# EAGLE library part SMD-BLACK-MALE-HEADER-R/A(40P-2.0) (library Seeed-OPL-Connector)
320020032
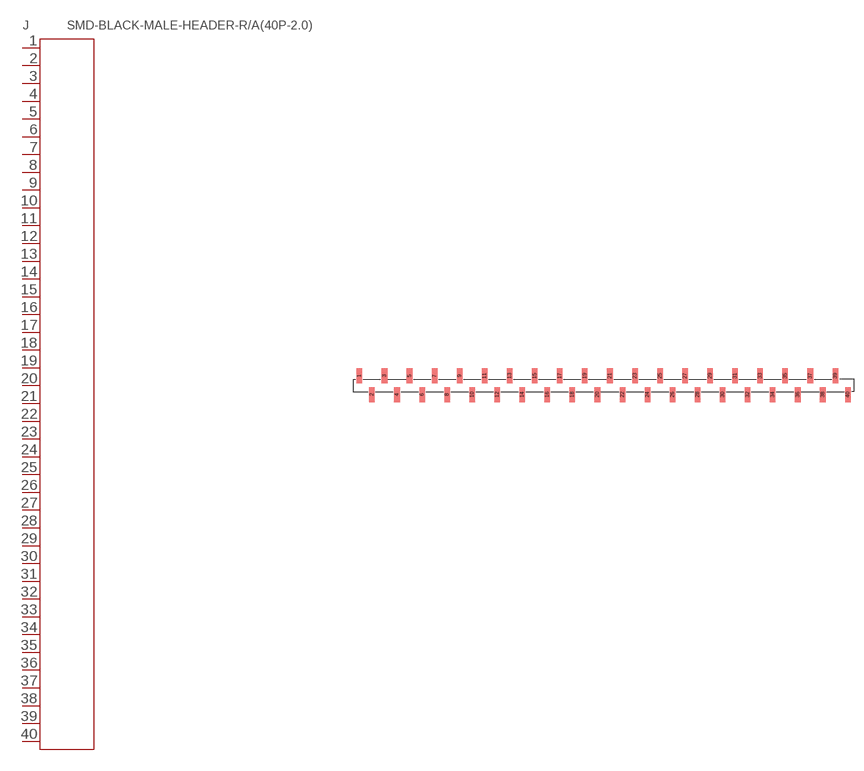
[diagram p18: symbol with the pads of H40-SMD-2.0; footprint H40-SMD-2.0]

Designator prefix J

## SMD-BLACK-MALE-HEADER-R/A(40P-2.0) (MPN: P125-1140B0BA1)  [H40-SMD-2.0]
1  P$1
2  P$2
3  P$3
4  P$4
5  P$5
6  P$6
7  P$7
8  P$8
9  P$9
10  P$10
11  P$11
12  P$12
13  P$13
14  P$14
15  P$15
16  P$16
17  P$17
18  P$18
19  P$19
20  P$20
21  P$21
22  P$22
23  P$23
24  P$24
25  P$25
26  P$26
27  P$27
28  P$28
29  P$29
30  P$30
31  P$31
32  P$32
33  P$33
34  P$34
35  P$35
36  P$36
37  P$37
38  P$38
39  P$39
40  P$40

## Footprint H40-SMD-2.0 (pad centres in mm)
smd 0.89 x 2.4: 1 -39,1.5; 2 -37,-1.5; 3 -35,1.5; 4 -33,-1.5; 5 -31,1.5; 6 -29,-1.5; 7 -27,1.5; 8 -25,-1.5; 9 -23,1.5; 10 -21,-1.5; 11 -19,1.5; 12 -17,-1.5; 13 -15,1.5; 14 -13,-1.5; 15 -11,1.5; 16 -9,-1.5; 17 -7,1.5; 18 -5,-1.5; 19 -3,1.5; 20 -1,-1.5; 21 1,1.5; 22 3,-1.5; 23 5,1.5; 24 7,-1.5; 25 9,1.5; 26 11,-1.5; 27 13,1.5; 28 15,-1.5; 29 17,1.5; 30 19,-1.5; 31 21,1.5; 32 23,-1.5; 33 25,1.5; 34 27,-1.5; 35 29,1.5; 36 31,-1.5; 37 33,1.5; 38 35,-1.5; 39 37,1.5; 40 39,-1.5